# EAGLE library part ATSAMD10D (library Atmel)
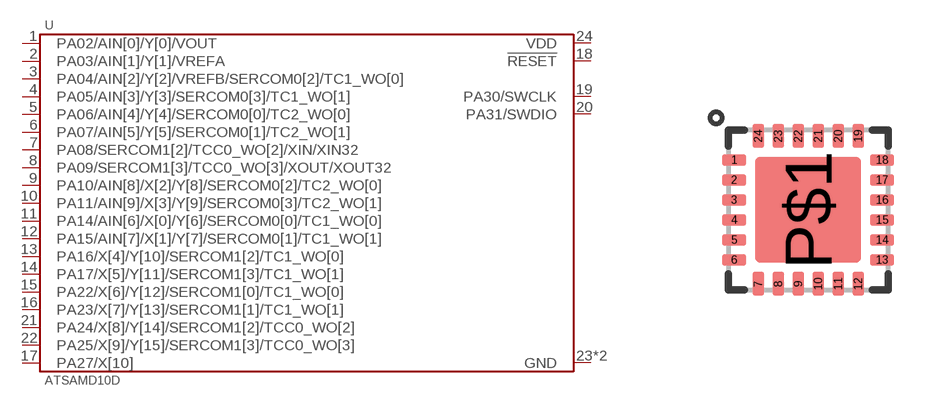
[diagram p23: symbol with the pads of QFN-24; footprint QFN-24]

Designator prefix U

## ATSAMD10D13A-MUT  [QFN-24]
1  PA02/AIN[0]/Y[0]/VOUT
2  PA03/AIN[1]/Y[1]/VREFA
3  PA04/AIN[2]/Y[2]/VREFB/SERCOM0[2]/TC1_WO[0]
4  PA05/AIN[3]/Y[3]/SERCOM0[3]/TC1_WO[1]
5  PA06/AIN[4]/Y[4]/SERCOM0[0]/TC2_WO[0]
6  PA07/AIN[5]/Y[5]/SERCOM0[1]/TC2_WO[1]
7  PA08/SERCOM1[2]/TCC0_WO[2]/XIN/XIN32
8  PA09/SERCOM1[3]/TCC0_WO[3]/XOUT/XOUT32
9  PA10/AIN[8]/X[2]/Y[8]/SERCOM0[2]/TC2_WO[0]
10  PA11/AIN[9]/X[3]/Y[9]/SERCOM0[3]/TC2_WO[1]
11  PA14/AIN[6]/X[0]/Y[6]/SERCOM0[0]/TC1_WO[0]
12  PA15/AIN[7]/X[1]/Y[7]/SERCOM0[1]/TC1_WO[1]
13  PA16/X[4]/Y[10]/SERCOM1[2]/TC1_WO[0]
14  PA17/X[5]/Y[11]/SERCOM1[3]/TC1_WO[1]
15  PA22/X[6]/Y[12]/SERCOM1[0]/TC1_WO[0]
16  PA23/X[7]/Y[13]/SERCOM1[1]/TC1_WO[1]
17  PA27/X[10]
18  !RESET
19  PA30/SWCLK
20  PA31/SWDIO
21  PA24/X[8]/Y[14]/SERCOM1[2]/TCC0_WO[2]
22  PA25/X[9]/Y[15]/SERCOM1[3]/TCC0_WO[3]
23  GND
24  VDD
P$1  GND

## Footprint QFN-24 (pad centres in mm)
smd 0.6 x 0.29: 1 -1.85,1.25; 2 -1.85,0.75; 3 -1.85,0.25; 4 -1.85,-0.25; 5 -1.85,-0.75; 6 -1.85,-1.25; 13 1.85,-1.25; 14 1.85,-0.75; 15 1.85,-0.25; 16 1.85,0.25; 17 1.85,0.75; 18 1.85,1.25
smd 0.29 x 0.6: 7 -1.25,-1.85; 8 -0.75,-1.85; 9 -0.25,-1.85; 10 0.25,-1.85; 11 0.75,-1.85; 12 1.25,-1.85; 19 1.25,1.85; 20 0.75,1.85; 21 0.25,1.85; 22 -0.25,1.85; 23 -0.75,1.85; 24 -1.25,1.85
smd 2.65 x 2.65: P$1 0,0